# EAGLE library part EF86 (library radiotubes)
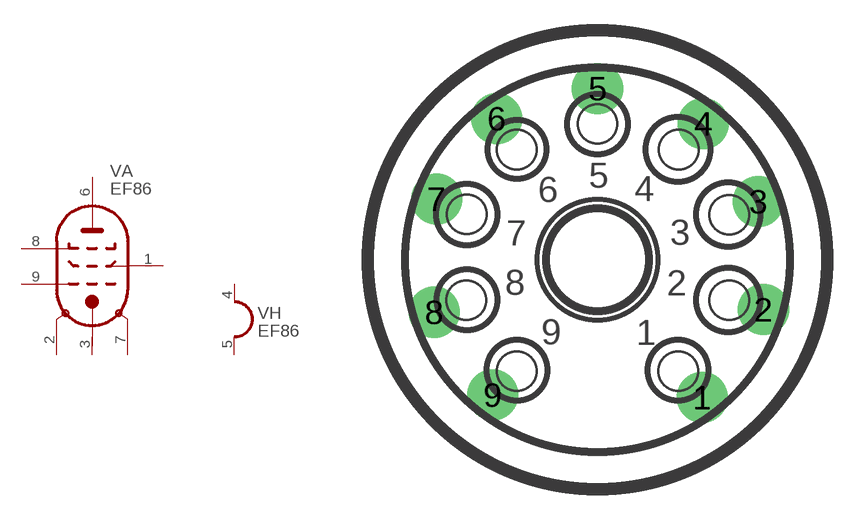
[diagram p5: symbol with the pads of NOVAL; footprint NOVAL]

Designator prefix V; gates H=HEATER_1 A=PENT-2S

## EF86  [NOVAL]
1  A:G2  pas
2  A:S1  pas
3  A:K  pas
4  H:H1  pas
5  H:H2  pas
6  A:A  pas
7  A:S2  pas
8  A:G3  pas
9  A:G1  pas

## Footprint NOVAL (pad centres in mm)
drill 1.422 pad 2.54: 1 5.207,-6.858; 2 8.254,-2.484; 3 8.004,2.893; 4 5.258,6.77; 5 0,8.524; 6 -5.004,7.024; 7 -8.004,3.02; 8 -8.127,-2.611; 9 -5.207,-6.731